# Altium schematic symbol library GRM1555C1H7R5BZ01J.SchLib: 1 symbol
Pins are listed as number, name and electrical type; pins without a type are passive.

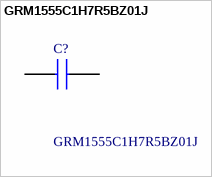
[diagram p0: symbol GRM1555C1H7R5BZ01J]

## GRM1555C1H7R5BZ01J
designator C?
Multilayer Ceramic Capacitors MLCC - SMD/SMT 0402 7.5pF 50volt C0G +/-0.10pF; Manufacturer_Name: Murata Electronics; Geometry.Height: 0.55mm; Manufacturer_Part_Number: GRM1555C1H7R5BZ01J; Mouser Part Number: 81-GRM1555C1H7R5BZ1J; Mouser Price/Stock: https://www.mouser.co.uk/ProductDetail/Murata-Electronics/GRM1555C1H7R5BZ01J?qs=Sq%2FQ2fJfz69OzoM8GbjH%2FA%3D%3D; Arrow Part Number: *; Arrow Price/Stock: *; Datasheet Link: http://www.murata.com/~/media/webrenewal/support/library/catalog/products/capacitor/mlcc/c02e.pdf
footprint CAPC1005X55N
pins: 1, 2